# EAGLE library part TSL1401CL (library Chromation)
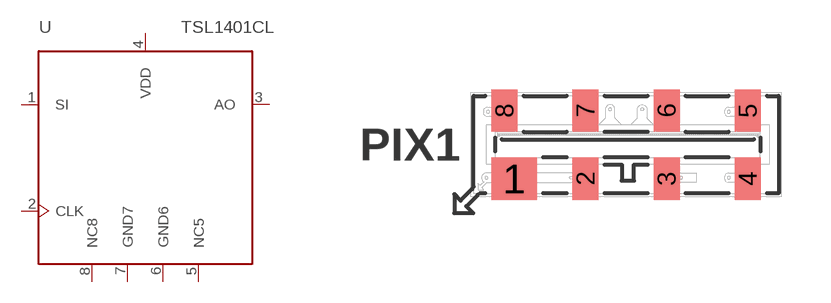
[diagram p17: symbol with the pads of TSL1401CL; footprint TSL1401CL]

Designator prefix U

## TSL1401CL  [TSL1401CL]
1  SI
2  CLK
3  AO
4  VDD
5  NC5  nc
6  GND6
7  GND7
8  NC8  nc

## Footprint TSL1401CL (pad centres in mm)
smd 1.4 x 1.3: 1 -3.499,-1.355
smd 0.8 x 1.3: 2 -1.299,-1.355; 3 1.201,-1.355; 4 3.701,-1.355; 5 3.701,0.745; 6 1.201,0.745; 7 -1.299,0.745; 8 -3.799,0.745